# EAGLE library part ADS1115 (library monitor_components)
ADS1115 16Bit 4 channel Module
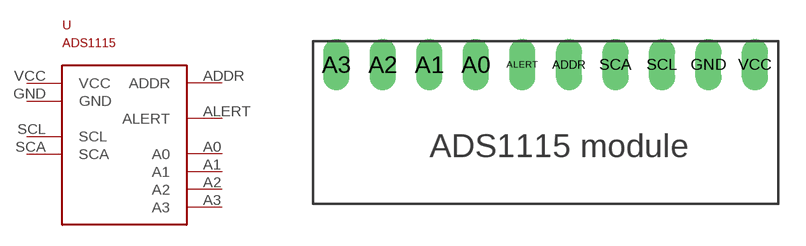
[diagram p0: symbol with the pads of ADS1115; footprint ADS1115]

Designator prefix -

## ADS1115MINI-MODULE (MODULE: ADS1115)  [ADS1115]
A0  A0
A1  A1
A2  A2
A3  A3
ADDR  ADDR
ALERT  ALERT
GND  GND
SCA  SCA
SCL  SCL
VCC  VCC

## Footprint ADS1115 (pad centres in mm)
drill 0.9 long: A0 -2.54,2.54; A1 -5.08,2.54; A2 -7.62,2.54; A3 -10.16,2.54; ADDR 2.54,2.54; ALERT 0,2.54; GND 10.16,2.54; SCA 5.08,2.54; SCL 7.62,2.54; VCC 12.7,2.54